# Altium schematic symbol library CY8C4247LQI-BL483.Schlib: 1 symbol
Pins are listed as number, name and electrical type; pins without a type are passive.

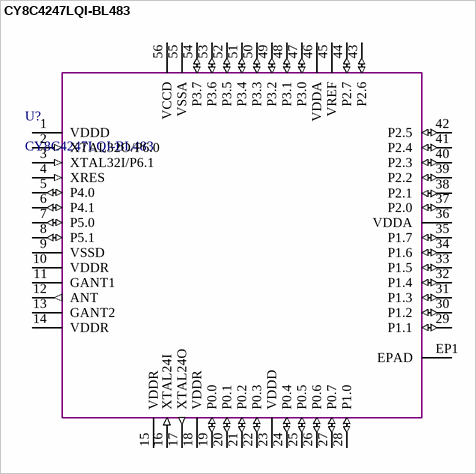
[diagram p0: symbol CY8C4247LQI-BL483]

## CY8C4247LQI-BL483
designator U?
pins: 1 VDDD (power), 2 XTAL32O/P6.0 (in), 3 XTAL32I/P6.1 (in), 4 XRES (in), 5 P4.0 (io), 6 P4.1 (io), 7 P5.0 (io), 8 P5.1 (io), 9 VSSD (power), 10 VDDR (power), 11 GANT1 (power), 12 ANT (out), 13 GANT2 (power), 14 VDDR (power), 15 VDDR (power), 16 XTAL24I (in), 17 XTAL24O (out), 18 VDDR (power), 19 P0.0 (io), 20 P0.1 (io), 21 P0.2 (io), 22 P0.3 (io), 23 VDDD (power), 24 P0.4 (io), 25 P0.5 (io), 26 P0.6 (io), 27 P0.7 (io), 28 P1.0 (io), 29 P1.1 (io), 30 P1.2 (io), 31 P1.3 (io), 32 P1.4 (io), 33 P1.5 (io), 34 P1.6 (io), 35 P1.7 (io), 36 VDDA (power), 37 P2.0 (io), 38 P2.1 (io), 39 P2.2 (io), 40 P2.3 (io), 41 P2.4 (io), 42 P2.5 (io), 43 P2.6 (io), 44 P2.7 (io), 45 VREF (power), 46 VDDA (power), 47 P3.0 (io), 48 P3.1 (io), 49 P3.2 (io), 50 P3.3 (io), 51 P3.4 (io), 52 P3.5 (io), 53 P3.6 (io), 54 P3.7 (io), 55 VSSA (power), 56 VCCD (power), EP1 EPAD (power)